# Altium schematic symbol library 10103594-0001LF.SchLib: 1 symbol
Pins are listed as number, name and electrical type; pins without a type are passive.

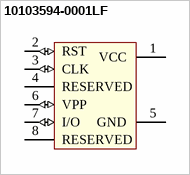
[diagram p0: symbol 10103594-0001LF]

## 10103594-0001LF
designator ?  (value not drawn)
CONN SIM CARD PUSH-PUSH R/A SMD; Manufacturer: Amphenol Commercial Products; Manufacturer Part Number: 101-00306-82; Connector Type: Connector and Ejector; Other Names: 101-00306-82-1; Digi-Key Part Number: 101-00306-82-1-ND; Mounting Type: Surface Mount, Right Angle
footprint POS-5
pins: 1 VCC (power), 2 RST (io), 3 CLK (io), 4 RESERVED, 5 GND, 6 VPP (io), 7 I/O (io), 8 RESERVED